# EAGLE library part MICROBUILDER_ESP-12E (library AutoPark)
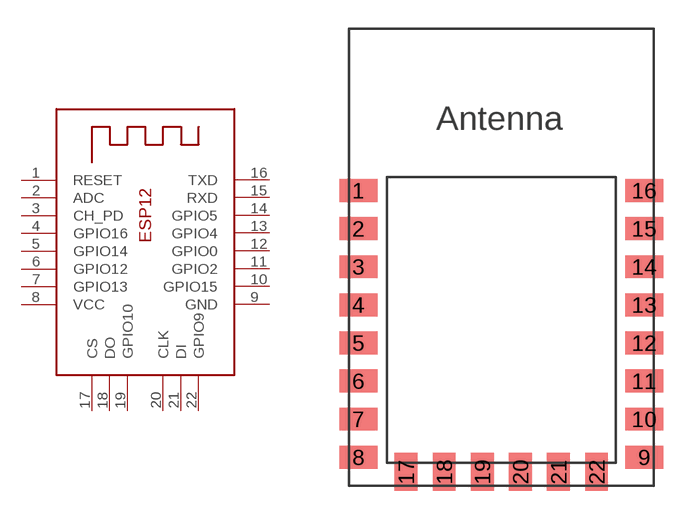
[diagram p2: symbol with the pads of MICROBUILDER_ESP-12E; footprint MICROBUILDER_ESP-12E]

Designator prefix X

## MICROBUILDER_ESP-12E  [MICROBUILDER_ESP-12E]
1  RESET  in
2  ADC  pas
3  CH_PD  in
4  GPIO16
5  GPIO14
6  GPIO12
7  GPIO13
8  VCC  pwr
9  GND  pwr
10  GPIO15
11  GPIO2
12  GPIO0
13  GPIO4
14  GPIO5
15  RXD  in
16  TXD  out
17  CS
18  DO
19  GPIO10
20  CLK
21  DI
22  GPIO9

## Footprint MICROBUILDER_ESP-12E (pad centres in mm)
smd 2 x 1.2: 1 -7.5,5.77; 2 -7.5,3.77; 3 -7.5,1.77; 4 -7.5,-0.23; 5 -7.5,-2.23; 6 -7.5,-4.23; 7 -7.5,-6.23; 8 -7.5,-8.23; 9 7.5,-8.23; 10 7.5,-6.23; 11 7.5,-4.23; 12 7.5,-2.23; 13 7.5,-0.23; 14 7.5,1.77; 15 7.5,3.77; 16 7.5,5.77
smd 1.2 x 2: 17 -5,-9; 18 -3,-9; 19 -1,-9; 20 1,-9; 21 3,-9; 22 5,-9